# EAGLE library part ZX62 (library other)
Hirose Micro USB Connector ZX62R-B-5P: Micro B, reverse (top mount) shell SMT Supplier: DigiKey H11574CT-ND Source: http://www.hirose.co.jp/cataloge_hp/e24200011.pdf
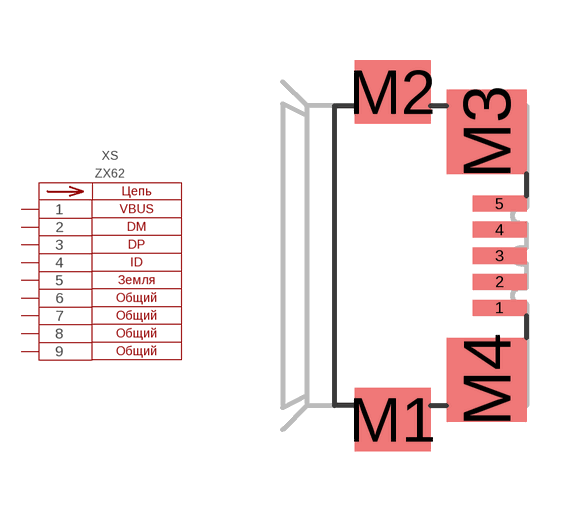
[diagram p4: symbol with the pads of ZX62R-B-5P; footprint ZX62R-B-5P]

Designator prefix XS

## ZX62R-B-5P  [ZX62R-B-5P]
1  1  pas
2  2  pas
3  3  pas
4  4  pas
5  5  pas
M1  6  pas
M2  7  pas
M3  8  pas
M4  9  pas

## Footprint ZX62R-B-5P (pad centres in mm)
MINI USB Connector HI-SPEED Certified Metal Shield SMT Type Without Positioning Post Source: http://www.hirose.co.jp/cataloge_hp/e24000019.pdf
smd 1.35 x 0.4: 1 2.675,-1.3; 2 2.675,-0.65; 3 2.675,0; 4 2.675,0.65; 5 2.675,1.3
smd 1.9 x 1.6: M1 0,-4.1; M2 0,4.1
smd 2 x 2.1: M3 2.35,3.1; M4 2.35,-3.1